# Altium footprint library VCO_PCB.PcbLib: 8 footprints
Each footprint in its own frame and in the unit in brackets; x right, y up, seen from the top. Pads: shape width x height; smd on the part's side, far side on the other; paste and mask are expansions set on the pad; w line width, h text height; cw(c..) or ccw(c..) is an arc to the next point about the centre after c.
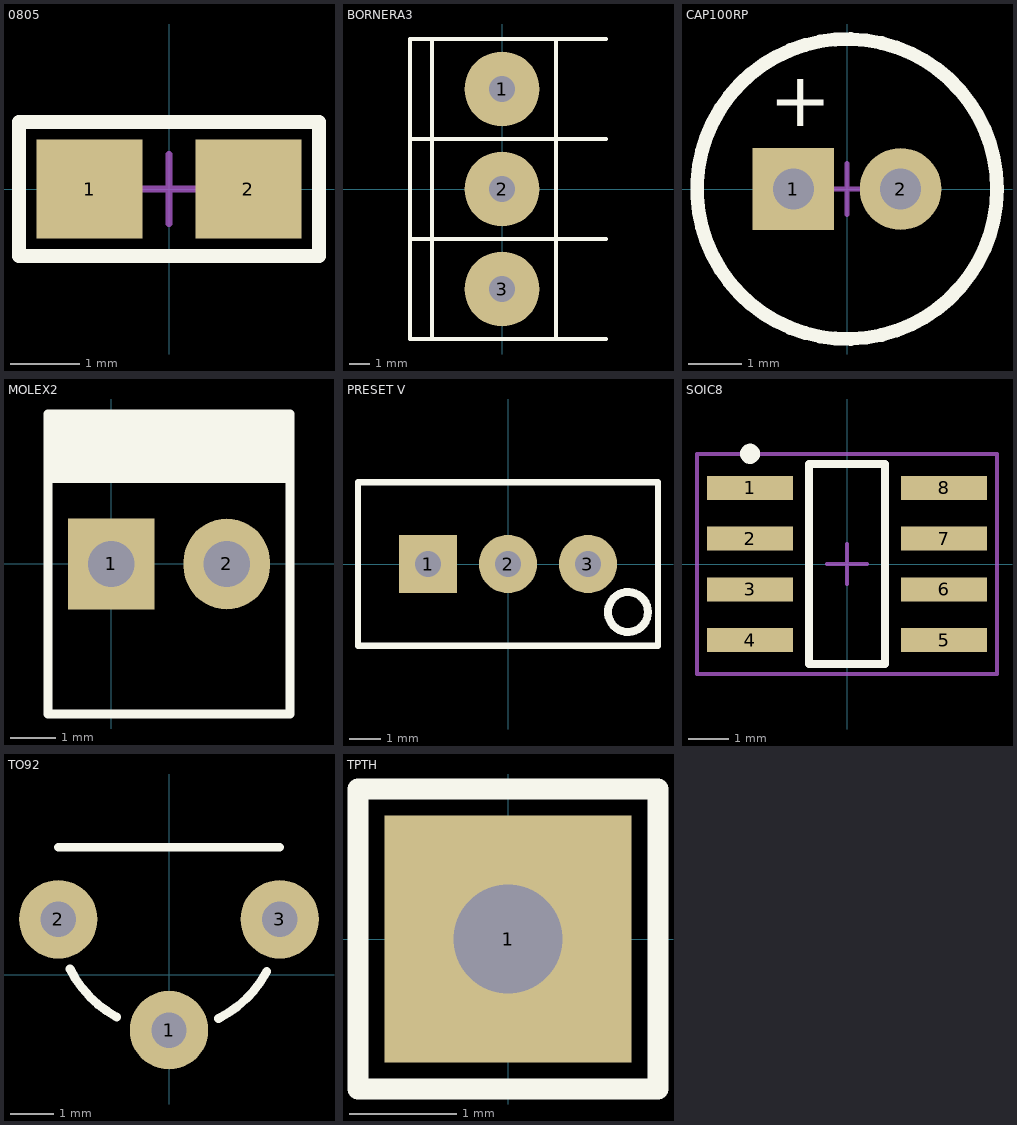
[diagram p0: the footprints below, top view; thin cyan lines are the x and y axes]

## 0805 [mil] "Pasivo 0805"
height 27.56
pads (2):
  rect 60x56 smd: 1(-45,0) 2(45,0)
Top Overlay:
  lines w7.87: -85,-38 85,-38 85,38 -85,38 -85,-38
Mechanical 15:
  lines w3.94: -19.69,0 19.68,0 ; 0,-19.68 0,19.68
3D body "0805.STEP": height 15.35, standoff -0.79, extent -39.5,-24.5 39.24,24.71

## BORNERA3 [mm] "Bornera con Tornillos 5mm separación"
pads (3):
  round 3.75 hole 1.3: 1(0,5) 2(0,0) 3(0,-5)
Top Overlay:
  lines w0.2: -4.6,-2.5 5.2,-2.5 ; -4.6,2.5 5.2,2.5 ; -3.5,-7.5 -3.5,7.5 ; 2.7,-7.5 2.7,7.5 ; 5.2,-7.5 -4.6,-7.5 -4.6,7.5 5.2,7.5
3D body "BORNERA_3.step": height 10.05, standoff -2.24, extent -3.763,-7.392 3.937,8.107

## CAP100RP [mil] "Body diameter 5mm"
pads (2):
  rect 60x60 hole 30: 1(-39.37,0)
  round 60 hole 30: 2(39.37,0)
Top Overlay:
  circle w10: c0,0 r110
  text "+" at -57,46 h40
Mechanical 15:
  lines w3.94: -18.7,0 18.7,0 ; 0,-18.7 0,18.7
3D body "User Library-Cap electro 5x11x2mm.step": height 453.76, standoff -128.81, extent -99.43,-99 99.43,99.85

## MOLEX2 [mm]
pads (2):
  rect 1.9x2 hole 1.016: 1(0,0)
  oval 1.9x2 hole 1.016: 2(2.54,0)
Top Overlay:
  rectangle: -1.397,1.778 3.937,3.302
  lines w0.2: -1.397,-3.302 -1.397,3.302 3.937,3.302 3.937,-3.302 -1.397,-3.302
3D body "MOLEX2.STEP": height 10.74, standoff -3.48, extent -1.27,-3.175 3.81,3.175

## PRESET V [mm]
pads (3):
  rect 1.85x1.85 hole 0.813: 1(-2.54,0)
  round 1.85 hole 0.813: 2(0,0) 3(2.54,0)
Top Overlay:
  circle w0.254: c3.81,-1.524 r0.635
  lines w0.2: -4.763,-2.6 -4.763,2.6 4.763,2.6 4.763,-2.6 -4.763,-2.6
3D body "Preset.step": height 11.55, standoff -6.4, extent -4.704,-2.415 4.826,2.415

## SOIC8 [mm]
height 1.75
pads (8):
  rect 2.15x0.6 smd: 1(-2.425,1.905) 2(-2.425,0.635) 3(-2.425,-0.635) 4(-2.425,-1.905) 5(2.425,-1.905) 6(2.425,-0.635) 7(2.425,0.635) 8(2.425,1.905)
Top Overlay:
  circle w0.254: c-2.425,2.755 r0.125
  lines w0.2: -0.95,-2.5 -0.95,2.5 0.95,2.5 0.95,-2.5 -0.95,-2.5
Mechanical 15:
  lines w0.1: -0.5,0 0.5,0 ; 0,-0.5 0,0.5 ; -3.75,-2.75 -3.75,2.75 3.75,2.75 3.75,-2.75 -3.75,-2.75
3D body "SO8.STEP": height 1.75, standoff 0, extent -3.006,-2.515 3.006,2.485

## TO92 [mm]
pads (3):
  round 1.8 hole 0.813: 1(0,-1.27) 2(-2.54,1.27) 3(2.54,1.27)
Top Overlay:
  lines w0.2: -2.54,2.921 2.54,2.921 ; -2.272,0.134 ccw(c0,1.27) -1.195,-0.971 ; 1.136,-1.002 ccw(c0,1.27) 2.241,0.075
3D body "User Library-TO-92D.step": height 8, standoff -3.02, extent -2.787,-1.546 2.787,2.794

## TPTH [mm]
pads (1):
  rect 2.3x2.3 hole 1.016: 1(0,0)
Top Overlay:
  lines w0.2: -1.397,-1.397 1.397,-1.397 1.397,1.397 -1.397,1.397 -1.397,-1.397
3D body "User Library-Header Vertical 2_54mm Pitch2-1.step": height 6.04, standoff -2.84, extent -1.27,-1.27 1.27,1.27